# Altium footprint library 1053131102.PcbLib: 1 footprints
Each footprint in its own frame and in the unit in brackets; x right, y up, seen from the top. Pads: shape width x height; smd on the part's side, far side on the other; paste and mask are expansions set on the pad; w line width, h text height; cw(c..) or ccw(c..) is an arc to the next point about the centre after c.
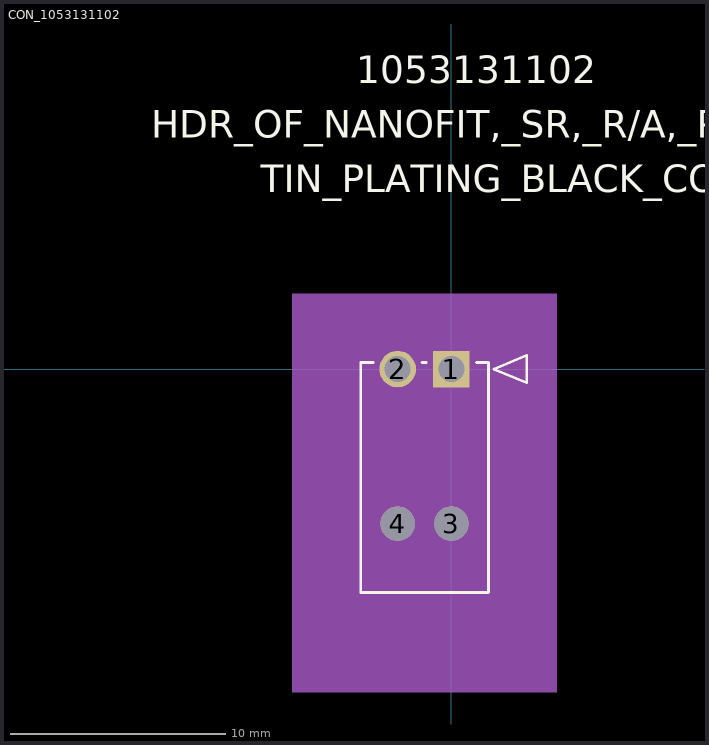
[diagram p0: the footprint, top view; thin cyan lines are the x and y axes]

## CON_1053131102 [mm]
pads (4):
  rect 1.7x1.7 hole 1.2 mask+0.076: 1(0,0)
  round 1.7 hole 1.2 mask+0.076: 2(-2.5,0)
  round 1.6 hole 1.6 unplated mask+0.076: 3(0,-7.18) 4(-2.5,-7.18)
Top Overlay:
  lines w0.127: -3.628,0.31 -4.22,0.31 -4.22,-10.38 1.72,-10.38 1.72,0.31 1.17,0.31 ; -1.372,0.31 -1.17,0.31 ; 1.974,0 3.498,0.635 3.498,-0.635 1.974,0
  text "1053131102" at -4.425,13.29 h1.27
  text "HDR_OF_NANOFIT,_SR,_R/A,_PWR_CONN_-2_CKT" at -13.95,10.75 h1.27
  text "TIN_PLATING_BLACK_COLOUR" at -8.87,8.21 h1.27
Mechanical 3:
  text "NOTE" at -4.22,-18.73 h1.27
  text "MAXIMUM_PACKAGE_HEIGHT:_6.64_MM" at -4.22,-21.27 h1.27
  text "RECOMMENDED_PCB_THICKNESS:" at -4.22,-25.08 h1.27
  text "1.6_MM_TO_2.4_MM" at -4.22,-27.62 h1.27
Mechanical 5:
  region: -7.395,3.495 4.895,3.495 4.895,-15.015 -7.395,-15.015
Mechanical 10:
  text "NOTE" at -4.22,-18.73 h1.27
  text "MAXIMUM_PACKAGE_HEIGHT:_6.64_MM" at -4.22,-21.27 h1.27
  text "RECOMMENDED_PCB_THICKNESS:" at -4.22,-25.08 h1.27
  text "1.6_MM_TO_2.4_MM" at -4.22,-27.62 h1.27
Mechanical 13:
  lines w0.127: -4.22,-11.84 1.72,-11.84 1.72,0.32 -4.22,0.32 -4.22,-11.84 ; 1.974,0 3.498,0.635 3.498,-0.635 1.974,0
  text "1053131102" at -4.425,13.29 h1.27
  text "HDR_OF_NANOFIT,_SR,_R/A,_PWR_CONN_-2_CKT" at -13.95,10.75 h1.27
  text "TIN_PLATING_BLACK_COLOUR" at -8.87,8.21 h1.27
Mechanical 15:
  region: 2.99,1.59 -5.49,1.59 -5.49,-13.11 2.99,-13.11
  lines w0.127: -5.49,-13.11 -5.49,1.59 2.99,1.59 2.99,-13.11 -5.49,-13.11
3D body: height 0.25, standoff 0, extent 0,0 0.254,0.254